# Altium integrated library CAP0603.IntLib: 1 symbol
Pins are listed as number, name and electrical type; pins without a type are passive.

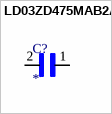
[diagram p0: symbol LD03ZD475MAB2A]

## LD03ZD475MAB2A
designator C?
COMMERCIAL CHIP STD JAPAN BULK - FN TAPE/REEL, 7 INCH PAPER TAPE; MP: LD03ZD475MAB2A; Package: None; Price: None; Value: *; Availability: Unavailable
footprint CAPC1608X90
pins: 1, 2